# Altium footprint library E32-433T30D.PcbLib: 1 footprints
Each footprint in its own frame and in the unit in brackets; x right, y up, seen from the top. Pads: shape width x height; smd on the part's side, far side on the other; paste and mask are expansions set on the pad; w line width, h text height; cw(c..) or ccw(c..) is an arc to the next point about the centre after c.
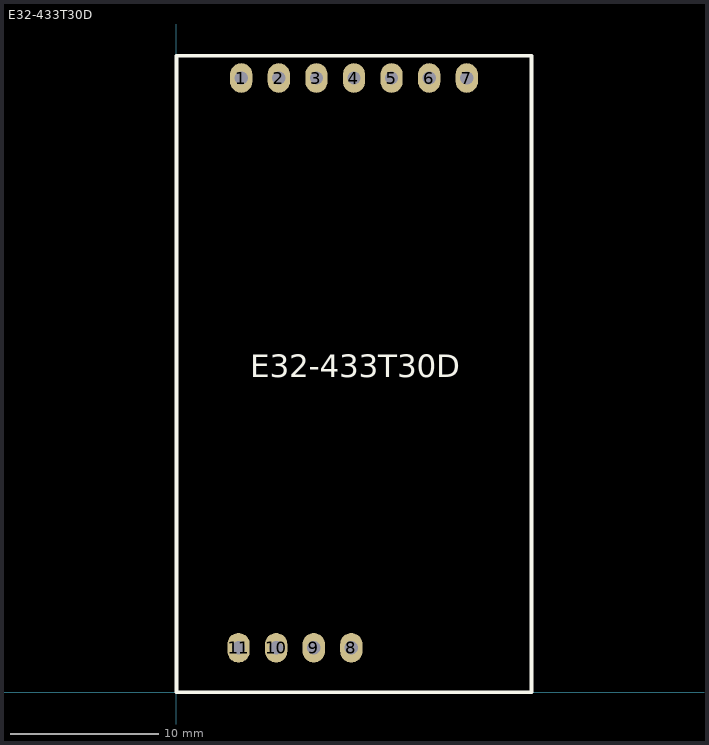
[diagram p0: the footprint, top view; thin cyan lines are the x and y axes]

## E32-433T30D [mm]
pads (11):
  oval 1.5x2 hole 0.9: 1(4.38,41.5) 2(6.92,41.5) 3(9.46,41.5) 4(12,41.5) 5(14.54,41.5) 6(17.08,41.5) 7(19.62,41.5) 8(11.82,3) 9(9.28,3) 10(6.74,3) 11(4.2,3)
Top Overlay:
  lines w0.254: 0,0 0,43 24,43 24,0 0,0
  text "E32-433T30D" at 5.004,21.284 h1.52